# Altium integrated library Analog Devices Interface and Isolation Digital Isolators.IntLib: 644 symbols (part 20 of 37)
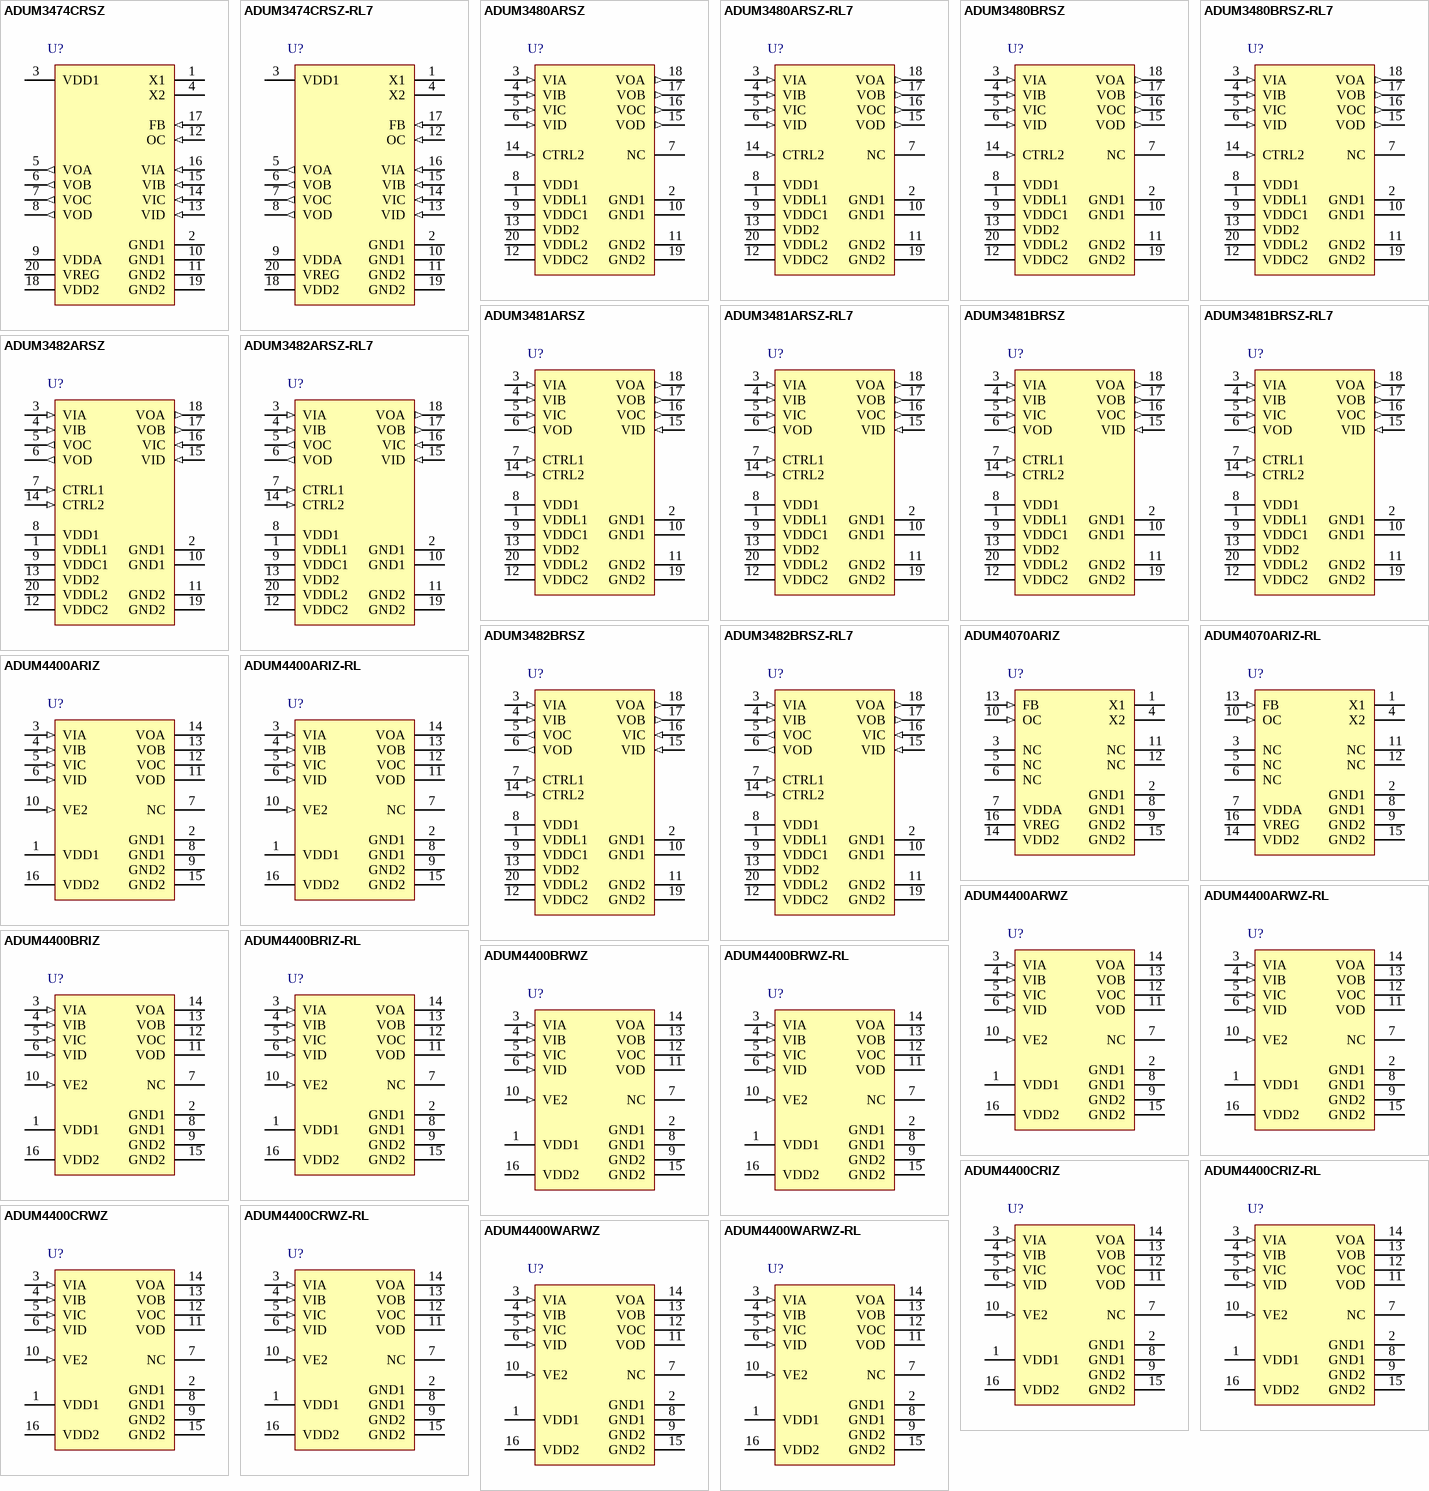
[diagram p39: symbols ADUM3474CRSZ to ADUM4400WARWZ-RL]

## ADUM3481ARSZ
designator U?
Quad Channel Small Isolator, 3.75 KV rms Insulation Rating, 1 Mbps Data Rate, 90 ns Delay, Industrial, 20-pin SOP (RS-20), Tube; Manufacturer: Analog Devices; PartNumber: ADUM3481ARSZ; Insulation Rating (kVrms): 3.75; Max Data Rate: 1Mbps; DatasheetVersion: Rev. 0; PackageVersion: Mar-03; PackageReference: RS-20; PackageDescription: 20-Pin Shrink Small Outline Package, Body 7.2 x 5.3 mm, Pitch 0.65 mm; Supplier 1: Digi-Key; Supplier Part Number 1: ADUM3481ARSZ-ND; Supplier 2: Farnell; Supplier Part Number 2: 2213542; Supplier 3: Mouser; Supplier Part Number 3: 584-ADUM3481ARSZ; Max Operating Temp (degreesC): 125; Mounting Technology: Surface Mount; Code_JEDEC: MO-150AE; ComponentLink1Description: Manufacturer URL; ComponentLink1URL: http://www.analog.com/en/index.html; ComponentLink2Description: Datasheet; ComponentLink2URL: http://www.analog.com/static/imported-files/data_sheets/ADuM3480_3481_3482.pdf; ComponentLink3Description: Package Specification; ComponentLink3URL: http://www.analog.com/static/imported-files/packages/318405805657546556503576154334802686596RS_20.pdf; ComponentLink4Description: URL Link1; ComponentLink4URL: Product URL:http://www.analog.com/en/interface-isolation/digital-isolators/adum3481/products/product.html
footprint ADI-RS-20_N (SOP, 20-Leads, Body 7.2x5.3mm, Pitch 0.65mm, IPC Medium Density)
footprint ADI-RS-20_L (SOP, 20-Leads, Body 7.2x5.3mm, Pitch 0.65mm, IPC High Density)
footprint ADI-RS-20_M (SOP, 20-Leads, Body 7.2x5.3mm, Pitch 0.65mm, IPC Low Density)
pins: 1 VDDL1 (power) "1.8 V to 5.5 V Supply Voltage for Isolator Side 1 Input/Output Circuits. Bypass VDDL1 to GND1 with a 0.01 uF to 0.1 uF ceramic capacitor. For 3.0 V to 5.5 V input/output operation, VDDL1 can be connected directly to VDD1.", 2 GND1 (power) "Ground 1. Ground reference for Isolator Side 1. Pin 2 and Pin 10 are internally connected, and connecting both to the PCB ground plane as close to the part as possible is recommended.", 3 VIA (in) "Logic Input A.", 4 VIB (in) "Logic Input B.", 5 VIC (in) "Logic Input C.", 6 VOD (out) "Logic Output D.", 7 CTRL1 (in) "Select Side 1 Output Default Level. Low = default output low. High = default output high.", 8 VDD1 (power) "3.0 V to 5.5 V Supply Voltage for Isolator Side 1.", 9 VDDC1 (power) "Output Pin of an Internal Regulator for Side 1. Bypass VDDC1 to GND1 with a 0.01 uF to 0.1 uF ceramic capacitor. Do not use this pin to power external circuits.", 10 GND1 (power) "Ground 1. Ground reference for Isolator Side 1. Pin 2 and Pin 10 are internally connected, and connecting both to the PCB ground plane as close to the part as possible is recommended.", 11 GND2 (power) "Ground 2. Ground reference for Isolator Side 2. Pin 11 and Pin 19 are internally connected, and connecting both to the PCB ground plane as close to the part as possible is recommended.", 12 VDDC2 (power) "Output Pin of an Internal Regulator for Side 2. Bypass VDDC2 to GND2 with a 0.01 uF to 0.1 uF ceramic capacitor. Do not use this pin to power external circuits.", 13 VDD2 (power) "3.0 V to 5.5 V Supply Voltage for Isolator Side 2.", 14 CTRL2 (in) "Select Side 2 Output Default Level. Low = default output low. High = default output high.", 15 VID (in) "Logic Input D.", 16 VOC (out) "Logic Output C.", 17 VOB (out) "Logic Output B.", 18 VOA (out) "Logic Output A.", 19 GND2 (power) "Ground 2. Ground reference for Isolator Side 2. Pin 11 and Pin 19 are internally connected, and connecting both to the PCB ground plane as close to the part as possible is recommended.", 20 VDDL2 (power) "1.8 V to 5.5 V Supply Voltage for Isolator Side 2 Input/Output Circuits. Bypass VDDL2 to GND2 with a 0.01 uF to 0.1 uF ceramic capacitor. For 3.0 V to 5.5 V input/output operation, VDDL2 can be connected directly to VDD2."

## ADUM3481ARSZ-RL7
designator U?
Quad Channel Small Isolator, 3.75 KV rms Insulation Rating, 1 Mbps Data Rate, 90 ns Delay, Industrial, 20-pin SOP (RS-20), Reel; Manufacturer: Analog Devices; PartNumber: ADUM3481ARSZ-RL7; Insulation Rating (kVrms): 3.75; Max Data Rate: 1Mbps; DatasheetVersion: Rev. 0; PackageVersion: Mar-03; PackageReference: RS-20; PackageDescription: 20-Pin Shrink Small Outline Package, Body 7.2 x 5.3 mm, Pitch 0.65 mm; Supplier 1: Digi-Key; Supplier Part Number 1: ADUM3481ARSZ-RL7-ND; Supplier 2: Mouser; Supplier Part Number 2: 584-ADUM3481ARSZ-R7; Max Operating Temp (degreesC): 125; Mounting Technology: Surface Mount; Code_JEDEC: MO-150AE; ComponentLink1Description: Manufacturer URL; ComponentLink1URL: http://www.analog.com/en/index.html; ComponentLink2Description: Datasheet; ComponentLink2URL: http://www.analog.com/static/imported-files/data_sheets/ADuM3480_3481_3482.pdf; ComponentLink3Description: Package Specification; ComponentLink3URL: http://www.analog.com/static/imported-files/packages/318405805657546556503576154334802686596RS_20.pdf; ComponentLink4Description: URL Link1; ComponentLink4URL: Product URL:http://www.analog.com/en/interface-isolation/digital-isolators/adum3481/products/product.html
footprint ADI-RS-20_N (SOP, 20-Leads, Body 7.2x5.3mm, Pitch 0.65mm, IPC Medium Density)
footprint ADI-RS-20_L (SOP, 20-Leads, Body 7.2x5.3mm, Pitch 0.65mm, IPC High Density)
footprint ADI-RS-20_M (SOP, 20-Leads, Body 7.2x5.3mm, Pitch 0.65mm, IPC Low Density)
pins: 1 VDDL1 (power) "1.8 V to 5.5 V Supply Voltage for Isolator Side 1 Input/Output Circuits. Bypass VDDL1 to GND1 with a 0.01 uF to 0.1 uF ceramic capacitor. For 3.0 V to 5.5 V input/output operation, VDDL1 can be connected directly to VDD1.", 2 GND1 (power) "Ground 1. Ground reference for Isolator Side 1. Pin 2 and Pin 10 are internally connected, and connecting both to the PCB ground plane as close to the part as possible is recommended.", 3 VIA (in) "Logic Input A.", 4 VIB (in) "Logic Input B.", 5 VIC (in) "Logic Input C.", 6 VOD (out) "Logic Output D.", 7 CTRL1 (in) "Select Side 1 Output Default Level. Low = default output low. High = default output high.", 8 VDD1 (power) "3.0 V to 5.5 V Supply Voltage for Isolator Side 1.", 9 VDDC1 (power) "Output Pin of an Internal Regulator for Side 1. Bypass VDDC1 to GND1 with a 0.01 uF to 0.1 uF ceramic capacitor. Do not use this pin to power external circuits.", 10 GND1 (power) "Ground 1. Ground reference for Isolator Side 1. Pin 2 and Pin 10 are internally connected, and connecting both to the PCB ground plane as close to the part as possible is recommended.", 11 GND2 (power) "Ground 2. Ground reference for Isolator Side 2. Pin 11 and Pin 19 are internally connected, and connecting both to the PCB ground plane as close to the part as possible is recommended.", 12 VDDC2 (power) "Output Pin of an Internal Regulator for Side 2. Bypass VDDC2 to GND2 with a 0.01 uF to 0.1 uF ceramic capacitor. Do not use this pin to power external circuits.", 13 VDD2 (power) "3.0 V to 5.5 V Supply Voltage for Isolator Side 2.", 14 CTRL2 (in) "Select Side 2 Output Default Level. Low = default output low. High = default output high.", 15 VID (in) "Logic Input D.", 16 VOC (out) "Logic Output C.", 17 VOB (out) "Logic Output B.", 18 VOA (out) "Logic Output A.", 19 GND2 (power) "Ground 2. Ground reference for Isolator Side 2. Pin 11 and Pin 19 are internally connected, and connecting both to the PCB ground plane as close to the part as possible is recommended.", 20 VDDL2 (power) "1.8 V to 5.5 V Supply Voltage for Isolator Side 2 Input/Output Circuits. Bypass VDDL2 to GND2 with a 0.01 uF to 0.1 uF ceramic capacitor. For 3.0 V to 5.5 V input/output operation, VDDL2 can be connected directly to VDD2."

## ADUM3481BRSZ
designator U?
Quad Channel Small Isolator, 3.75 KV rms Insulation Rating, 25 Mbps Data Rate, 33 ns Delay, Industrial, 20-pin SOP (RS-20), Tube; Manufacturer: Analog Devices; PartNumber: ADUM3481BRSZ; Insulation Rating (kVrms): 3.75; Max Data Rate: 25Mbps; DatasheetVersion: Rev. 0; PackageVersion: Mar-03; PackageReference: RS-20; PackageDescription: 20-Pin Shrink Small Outline Package, Body 7.2 x 5.3 mm, Pitch 0.65 mm; Supplier 1: Digi-Key; Supplier Part Number 1: ADUM3481BRSZ-ND; Supplier 2: Farnell; Supplier Part Number 2: 2213543; Supplier 3: Mouser; Supplier Part Number 3: 584-ADUM3481BRSZ; Max Operating Temp (degreesC): 125; Mounting Technology: Surface Mount; Code_JEDEC: MO-150AE; ComponentLink1Description: Manufacturer URL; ComponentLink1URL: http://www.analog.com/en/index.html; ComponentLink2Description: Datasheet; ComponentLink2URL: http://www.analog.com/static/imported-files/data_sheets/ADuM3480_3481_3482.pdf; ComponentLink3Description: Package Specification; ComponentLink3URL: http://www.analog.com/static/imported-files/packages/318405805657546556503576154334802686596RS_20.pdf; ComponentLink4Description: URL Link1; ComponentLink4URL: Product URL:http://www.analog.com/en/interface-isolation/digital-isolators/adum3481/products/product.html
footprint ADI-RS-20_N (SOP, 20-Leads, Body 7.2x5.3mm, Pitch 0.65mm, IPC Medium Density)
footprint ADI-RS-20_L (SOP, 20-Leads, Body 7.2x5.3mm, Pitch 0.65mm, IPC High Density)
footprint ADI-RS-20_M (SOP, 20-Leads, Body 7.2x5.3mm, Pitch 0.65mm, IPC Low Density)
pins: 1 VDDL1 (power) "1.8 V to 5.5 V Supply Voltage for Isolator Side 1 Input/Output Circuits. Bypass VDDL1 to GND1 with a 0.01 uF to 0.1 uF ceramic capacitor. For 3.0 V to 5.5 V input/output operation, VDDL1 can be connected directly to VDD1.", 2 GND1 (power) "Ground 1. Ground reference for Isolator Side 1. Pin 2 and Pin 10 are internally connected, and connecting both to the PCB ground plane as close to the part as possible is recommended.", 3 VIA (in) "Logic Input A.", 4 VIB (in) "Logic Input B.", 5 VIC (in) "Logic Input C.", 6 VOD (out) "Logic Output D.", 7 CTRL1 (in) "Select Side 1 Output Default Level. Low = default output low. High = default output high.", 8 VDD1 (power) "3.0 V to 5.5 V Supply Voltage for Isolator Side 1.", 9 VDDC1 (power) "Output Pin of an Internal Regulator for Side 1. Bypass VDDC1 to GND1 with a 0.01 uF to 0.1 uF ceramic capacitor. Do not use this pin to power external circuits.", 10 GND1 (power) "Ground 1. Ground reference for Isolator Side 1. Pin 2 and Pin 10 are internally connected, and connecting both to the PCB ground plane as close to the part as possible is recommended.", 11 GND2 (power) "Ground 2. Ground reference for Isolator Side 2. Pin 11 and Pin 19 are internally connected, and connecting both to the PCB ground plane as close to the part as possible is recommended.", 12 VDDC2 (power) "Output Pin of an Internal Regulator for Side 2. Bypass VDDC2 to GND2 with a 0.01 uF to 0.1 uF ceramic capacitor. Do not use this pin to power external circuits.", 13 VDD2 (power) "3.0 V to 5.5 V Supply Voltage for Isolator Side 2.", 14 CTRL2 (in) "Select Side 2 Output Default Level. Low = default output low. High = default output high.", 15 VID (in) "Logic Input D.", 16 VOC (out) "Logic Output C.", 17 VOB (out) "Logic Output B.", 18 VOA (out) "Logic Output A.", 19 GND2 (power) "Ground 2. Ground reference for Isolator Side 2. Pin 11 and Pin 19 are internally connected, and connecting both to the PCB ground plane as close to the part as possible is recommended.", 20 VDDL2 (power) "1.8 V to 5.5 V Supply Voltage for Isolator Side 2 Input/Output Circuits. Bypass VDDL2 to GND2 with a 0.01 uF to 0.1 uF ceramic capacitor. For 3.0 V to 5.5 V input/output operation, VDDL2 can be connected directly to VDD2."

## ADUM3481BRSZ-RL7
designator U?
Quad Channel Small Isolator, 3.75 KV rms Insulation Rating, 25 Mbps Data Rate, 33 ns Delay, Industrial, 20-pin SOP (RS-20), Reel; Manufacturer: Analog Devices; PartNumber: ADUM3481BRSZ-RL7; Insulation Rating (kVrms): 3.75; Max Data Rate: 25Mbps; DatasheetVersion: Rev. 0; PackageVersion: Mar-03; PackageReference: RS-20; PackageDescription: 20-Pin Shrink Small Outline Package, Body 7.2 x 5.3 mm, Pitch 0.65 mm; Supplier 1: Digi-Key; Supplier Part Number 1: ADUM3481BRSZ-RL7-ND; Supplier 2: Mouser; Supplier Part Number 2: 584-ADUM3481BRSZ-R7; Max Operating Temp (degreesC): 125; Mounting Technology: Surface Mount; Code_JEDEC: MO-150AE; ComponentLink1Description: Manufacturer URL; ComponentLink1URL: http://www.analog.com/en/index.html; ComponentLink2Description: Datasheet; ComponentLink2URL: http://www.analog.com/static/imported-files/data_sheets/ADuM3480_3481_3482.pdf; ComponentLink3Description: Package Specification; ComponentLink3URL: http://www.analog.com/static/imported-files/packages/318405805657546556503576154334802686596RS_20.pdf; ComponentLink4Description: URL Link1; ComponentLink4URL: Product URL:http://www.analog.com/en/interface-isolation/digital-isolators/adum3481/products/product.html
footprint ADI-RS-20_N (SOP, 20-Leads, Body 7.2x5.3mm, Pitch 0.65mm, IPC Medium Density)
footprint ADI-RS-20_L (SOP, 20-Leads, Body 7.2x5.3mm, Pitch 0.65mm, IPC High Density)
footprint ADI-RS-20_M (SOP, 20-Leads, Body 7.2x5.3mm, Pitch 0.65mm, IPC Low Density)
pins: 1 VDDL1 (power) "1.8 V to 5.5 V Supply Voltage for Isolator Side 1 Input/Output Circuits. Bypass VDDL1 to GND1 with a 0.01 uF to 0.1 uF ceramic capacitor. For 3.0 V to 5.5 V input/output operation, VDDL1 can be connected directly to VDD1.", 2 GND1 (power) "Ground 1. Ground reference for Isolator Side 1. Pin 2 and Pin 10 are internally connected, and connecting both to the PCB ground plane as close to the part as possible is recommended.", 3 VIA (in) "Logic Input A.", 4 VIB (in) "Logic Input B.", 5 VIC (in) "Logic Input C.", 6 VOD (out) "Logic Output D.", 7 CTRL1 (in) "Select Side 1 Output Default Level. Low = default output low. High = default output high.", 8 VDD1 (power) "3.0 V to 5.5 V Supply Voltage for Isolator Side 1.", 9 VDDC1 (power) "Output Pin of an Internal Regulator for Side 1. Bypass VDDC1 to GND1 with a 0.01 uF to 0.1 uF ceramic capacitor. Do not use this pin to power external circuits.", 10 GND1 (power) "Ground 1. Ground reference for Isolator Side 1. Pin 2 and Pin 10 are internally connected, and connecting both to the PCB ground plane as close to the part as possible is recommended.", 11 GND2 (power) "Ground 2. Ground reference for Isolator Side 2. Pin 11 and Pin 19 are internally connected, and connecting both to the PCB ground plane as close to the part as possible is recommended.", 12 VDDC2 (power) "Output Pin of an Internal Regulator for Side 2. Bypass VDDC2 to GND2 with a 0.01 uF to 0.1 uF ceramic capacitor. Do not use this pin to power external circuits.", 13 VDD2 (power) "3.0 V to 5.5 V Supply Voltage for Isolator Side 2.", 14 CTRL2 (in) "Select Side 2 Output Default Level. Low = default output low. High = default output high.", 15 VID (in) "Logic Input D.", 16 VOC (out) "Logic Output C.", 17 VOB (out) "Logic Output B.", 18 VOA (out) "Logic Output A.", 19 GND2 (power) "Ground 2. Ground reference for Isolator Side 2. Pin 11 and Pin 19 are internally connected, and connecting both to the PCB ground plane as close to the part as possible is recommended.", 20 VDDL2 (power) "1.8 V to 5.5 V Supply Voltage for Isolator Side 2 Input/Output Circuits. Bypass VDDL2 to GND2 with a 0.01 uF to 0.1 uF ceramic capacitor. For 3.0 V to 5.5 V input/output operation, VDDL2 can be connected directly to VDD2."

## ADUM3482ARSZ
designator U?
Quad Channel Small Isolator, 3.75 KV rms Insulation Rating, 1 Mbps Data Rate, 90 ns Delay, Industrial, 20-pin SOP (RS-20), Tube; Manufacturer: Analog Devices; PartNumber: ADUM3482ARSZ; Insulation Rating (kVrms): 3.75; Max Data Rate: 1Mbps; DatasheetVersion: Rev. 0; PackageVersion: Mar-03; PackageReference: RS-20; PackageDescription: 20-Pin Shrink Small Outline Package, Body 7.2 x 5.3 mm, Pitch 0.65 mm; Supplier 1: Digi-Key; Supplier Part Number 1: ADUM3482ARSZ-ND; Supplier 2: Farnell; Supplier Part Number 2: 2213544; Supplier 3: Mouser; Supplier Part Number 3: 584-ADUM3482ARSZ; Max Operating Temp (degreesC): 125; Mounting Technology: Surface Mount; Code_JEDEC: MO-150AE; ComponentLink1Description: Manufacturer URL; ComponentLink1URL: http://www.analog.com/en/index.html; ComponentLink2Description: Datasheet; ComponentLink2URL: http://www.analog.com/static/imported-files/data_sheets/ADuM3480_3481_3482.pdf; ComponentLink3Description: Package Specification; ComponentLink3URL: http://www.analog.com/static/imported-files/packages/318405805657546556503576154334802686596RS_20.pdf; ComponentLink4Description: URL Link1; ComponentLink4URL: Product URL:http://www.analog.com/en/interface-isolation/digital-isolators/adum3482/products/product.html
footprint ADI-RS-20_N (SOP, 20-Leads, Body 7.2x5.3mm, Pitch 0.65mm, IPC Medium Density)
footprint ADI-RS-20_L (SOP, 20-Leads, Body 7.2x5.3mm, Pitch 0.65mm, IPC High Density)
footprint ADI-RS-20_M (SOP, 20-Leads, Body 7.2x5.3mm, Pitch 0.65mm, IPC Low Density)
pins: 1 VDDL1 (power) "1.8 V to 5.5 V Supply Voltage for Isolator Side 1 Input/Output Circuits. Bypass VDDL1 to GND1 with a 0.01 uF to 0.1 uF ceramic capacitor. For 3.0 V to 5.5 V input/output operation, VDDL1 can be connected directly to VDD1.", 2 GND1 (power) "Ground 1. Ground reference for Isolator Side 1. Pin 2 and Pin 10 are internally connected, and connecting both to the PCB ground plane as close to the part as possible is recommended.", 3 VIA (in) "Logic Input A.", 4 VIB (in) "Logic Input B.", 5 VOC (out) "Logic Output C.", 6 VOD (out) "Logic Output D.", 7 CTRL1 (in) "Select Side 1 Output Default Level. Low = default output low. High = default output high.", 8 VDD1 (power) "3.0 V to 5.5 V Supply Voltage for Isolator Side 1.", 9 VDDC1 (power) "Output Pin of an Internal Regulator for Side 1. Bypass VDDC1 to GND1 with a 0.01 uF to 0.1 uF ceramic capacitor. Do not use this pin to power external circuits.", 10 GND1 (power) "Ground 1. Ground reference for Isolator Side 1. Pin 2 and Pin 10 are internally connected, and connecting both to the PCB ground plane as close to the part as possible is recommended.", 11 GND2 (power) "Ground 2. Ground reference for Isolator Side 2. Pin 11 and Pin 19 are internally connected, and connecting both to the PCB ground plane as close to the part as possible is recommended.", 12 VDDC2 (power) "Output Pin of an Internal Regulator for Side 2. Bypass VDDC2 to GND2 with a 0.01 uF to 0.1 uF ceramic capacitor. Do not use this pin to power external circuits.", 13 VDD2 (power) "3.0 V to 5.5 V Supply Voltage for Isolator Side 2.", 14 CTRL2 (in) "Select Side 2 Output Default Level. Low = default output low. High = default output high.", 15 VID (in) "Logic Input D.", 16 VIC (in) "Logic Input C.", 17 VOB (out) "Logic Output B.", 18 VOA (out) "Logic Output A.", 19 GND2 (power) "Ground 2. Ground reference for Isolator Side 2. Pin 11 and Pin 19 are internally connected, and connecting both to the PCB ground plane as close to the part as possible is recommended.", 20 VDDL2 (power) "1.8 V to 5.5 V Supply Voltage for Isolator Side 2 Input/Output Circuits. Bypass VDDL2 to GND2 with a 0.01 uF to 0.1 uF ceramic capacitor. For 3.0 V to 5.5 V input/output operation, VDDL2 can be connected directly to VDD2."

## ADUM3482ARSZ-RL7
designator U?
Quad Channel Small Isolator, 3.75 KV rms Insulation Rating, 1 Mbps Data Rate, 90 ns Delay, Industrial, 20-pin SOP (RS-20), Reel; Manufacturer: Analog Devices; PartNumber: ADUM3482ARSZ-RL7; Insulation Rating (kVrms): 3.75; Max Data Rate: 1Mbps; DatasheetVersion: Rev. 0; PackageVersion: Mar-03; PackageReference: RS-20; PackageDescription: 20-Pin Shrink Small Outline Package, Body 7.2 x 5.3 mm, Pitch 0.65 mm; Supplier 1: Digi-Key; Supplier Part Number 1: ADUM3482ARSZ-RL7-ND; Supplier 2: Mouser; Supplier Part Number 2: 584-ADUM3482ARSZ-R7; Max Operating Temp (degreesC): 125; Mounting Technology: Surface Mount; Code_JEDEC: MO-150AE; ComponentLink1Description: Manufacturer URL; ComponentLink1URL: http://www.analog.com/en/index.html; ComponentLink2Description: Datasheet; ComponentLink2URL: http://www.analog.com/static/imported-files/data_sheets/ADuM3480_3481_3482.pdf; ComponentLink3Description: Package Specification; ComponentLink3URL: http://www.analog.com/static/imported-files/packages/318405805657546556503576154334802686596RS_20.pdf; ComponentLink4Description: URL Link1; ComponentLink4URL: Product URL:http://www.analog.com/en/interface-isolation/digital-isolators/adum3482/products/product.html
footprint ADI-RS-20_N (SOP, 20-Leads, Body 7.2x5.3mm, Pitch 0.65mm, IPC Medium Density)
footprint ADI-RS-20_L (SOP, 20-Leads, Body 7.2x5.3mm, Pitch 0.65mm, IPC High Density)
footprint ADI-RS-20_M (SOP, 20-Leads, Body 7.2x5.3mm, Pitch 0.65mm, IPC Low Density)
pins: 1 VDDL1 (power) "1.8 V to 5.5 V Supply Voltage for Isolator Side 1 Input/Output Circuits. Bypass VDDL1 to GND1 with a 0.01 uF to 0.1 uF ceramic capacitor. For 3.0 V to 5.5 V input/output operation, VDDL1 can be connected directly to VDD1.", 2 GND1 (power) "Ground 1. Ground reference for Isolator Side 1. Pin 2 and Pin 10 are internally connected, and connecting both to the PCB ground plane as close to the part as possible is recommended.", 3 VIA (in) "Logic Input A.", 4 VIB (in) "Logic Input B.", 5 VOC (out) "Logic Output C.", 6 VOD (out) "Logic Output D.", 7 CTRL1 (in) "Select Side 1 Output Default Level. Low = default output low. High = default output high.", 8 VDD1 (power) "3.0 V to 5.5 V Supply Voltage for Isolator Side 1.", 9 VDDC1 (power) "Output Pin of an Internal Regulator for Side 1. Bypass VDDC1 to GND1 with a 0.01 uF to 0.1 uF ceramic capacitor. Do not use this pin to power external circuits.", 10 GND1 (power) "Ground 1. Ground reference for Isolator Side 1. Pin 2 and Pin 10 are internally connected, and connecting both to the PCB ground plane as close to the part as possible is recommended.", 11 GND2 (power) "Ground 2. Ground reference for Isolator Side 2. Pin 11 and Pin 19 are internally connected, and connecting both to the PCB ground plane as close to the part as possible is recommended.", 12 VDDC2 (power) "Output Pin of an Internal Regulator for Side 2. Bypass VDDC2 to GND2 with a 0.01 uF to 0.1 uF ceramic capacitor. Do not use this pin to power external circuits.", 13 VDD2 (power) "3.0 V to 5.5 V Supply Voltage for Isolator Side 2.", 14 CTRL2 (in) "Select Side 2 Output Default Level. Low = default output low. High = default output high.", 15 VID (in) "Logic Input D.", 16 VIC (in) "Logic Input C.", 17 VOB (out) "Logic Output B.", 18 VOA (out) "Logic Output A.", 19 GND2 (power) "Ground 2. Ground reference for Isolator Side 2. Pin 11 and Pin 19 are internally connected, and connecting both to the PCB ground plane as close to the part as possible is recommended.", 20 VDDL2 (power) "1.8 V to 5.5 V Supply Voltage for Isolator Side 2 Input/Output Circuits. Bypass VDDL2 to GND2 with a 0.01 uF to 0.1 uF ceramic capacitor. For 3.0 V to 5.5 V input/output operation, VDDL2 can be connected directly to VDD2."

## ADUM3482BRSZ
designator U?
Quad Channel Small Isolator, 3.75 KV rms Insulation Rating, 25 Mbps Data Rate, 33 ns Delay, Industrial, 20-pin SOP (RS-20), Tube; Manufacturer: Analog Devices; PartNumber: ADUM3482BRSZ; Insulation Rating (kVrms): 3.75; Max Data Rate: 25Mbps; DatasheetVersion: Rev. 0; PackageVersion: Mar-03; PackageReference: RS-20; PackageDescription: 20-Pin Shrink Small Outline Package, Body 7.2 x 5.3 mm, Pitch 0.65 mm; Supplier 1: Digi-Key; Supplier Part Number 1: ADUM3482BRSZ-ND; Supplier 2: Farnell; Supplier Part Number 2: 2213545; Supplier 3: Mouser; Supplier Part Number 3: 584-ADUM3482BRSZ; Max Operating Temp (degreesC): 125; Mounting Technology: Surface Mount; Code_JEDEC: MO-150AE; ComponentLink1Description: Manufacturer URL; ComponentLink1URL: http://www.analog.com/en/index.html; ComponentLink2Description: Datasheet; ComponentLink2URL: http://www.analog.com/static/imported-files/data_sheets/ADuM3480_3481_3482.pdf; ComponentLink3Description: Package Specification; ComponentLink3URL: http://www.analog.com/static/imported-files/packages/318405805657546556503576154334802686596RS_20.pdf; ComponentLink4Description: URL Link1; ComponentLink4URL: Product URL:http://www.analog.com/en/interface-isolation/digital-isolators/adum3482/products/product.html
footprint ADI-RS-20_N (SOP, 20-Leads, Body 7.2x5.3mm, Pitch 0.65mm, IPC Medium Density)
footprint ADI-RS-20_L (SOP, 20-Leads, Body 7.2x5.3mm, Pitch 0.65mm, IPC High Density)
footprint ADI-RS-20_M (SOP, 20-Leads, Body 7.2x5.3mm, Pitch 0.65mm, IPC Low Density)
pins: 1 VDDL1 (power) "1.8 V to 5.5 V Supply Voltage for Isolator Side 1 Input/Output Circuits. Bypass VDDL1 to GND1 with a 0.01 uF to 0.1 uF ceramic capacitor. For 3.0 V to 5.5 V input/output operation, VDDL1 can be connected directly to VDD1.", 2 GND1 (power) "Ground 1. Ground reference for Isolator Side 1. Pin 2 and Pin 10 are internally connected, and connecting both to the PCB ground plane as close to the part as possible is recommended.", 3 VIA (in) "Logic Input A.", 4 VIB (in) "Logic Input B.", 5 VOC (out) "Logic Output C.", 6 VOD (out) "Logic Output D.", 7 CTRL1 (in) "Select Side 1 Output Default Level. Low = default output low. High = default output high.", 8 VDD1 (power) "3.0 V to 5.5 V Supply Voltage for Isolator Side 1.", 9 VDDC1 (power) "Output Pin of an Internal Regulator for Side 1. Bypass VDDC1 to GND1 with a 0.01 uF to 0.1 uF ceramic capacitor. Do not use this pin to power external circuits.", 10 GND1 (power) "Ground 1. Ground reference for Isolator Side 1. Pin 2 and Pin 10 are internally connected, and connecting both to the PCB ground plane as close to the part as possible is recommended.", 11 GND2 (power) "Ground 2. Ground reference for Isolator Side 2. Pin 11 and Pin 19 are internally connected, and connecting both to the PCB ground plane as close to the part as possible is recommended.", 12 VDDC2 (power) "Output Pin of an Internal Regulator for Side 2. Bypass VDDC2 to GND2 with a 0.01 uF to 0.1 uF ceramic capacitor. Do not use this pin to power external circuits.", 13 VDD2 (power) "3.0 V to 5.5 V Supply Voltage for Isolator Side 2.", 14 CTRL2 (in) "Select Side 2 Output Default Level. Low = default output low. High = default output high.", 15 VID (in) "Logic Input D.", 16 VIC (in) "Logic Input C.", 17 VOB (out) "Logic Output B.", 18 VOA (out) "Logic Output A.", 19 GND2 (power) "Ground 2. Ground reference for Isolator Side 2. Pin 11 and Pin 19 are internally connected, and connecting both to the PCB ground plane as close to the part as possible is recommended.", 20 VDDL2 (power) "1.8 V to 5.5 V Supply Voltage for Isolator Side 2 Input/Output Circuits. Bypass VDDL2 to GND2 with a 0.01 uF to 0.1 uF ceramic capacitor. For 3.0 V to 5.5 V input/output operation, VDDL2 can be connected directly to VDD2."

## ADUM3482BRSZ-RL7
designator U?
Quad Channel Small Isolator, 3.75 KV rms Insulation Rating, 25 Mbps Data Rate, 33 ns Delay, Industrial, 20-pin SOP (RS-20), Reel; Manufacturer: Analog Devices; PartNumber: ADUM3482BRSZ-RL7; Insulation Rating (kVrms): 3.75; Max Data Rate: 25Mbps; DatasheetVersion: Rev. 0; PackageVersion: Mar-03; PackageReference: RS-20; PackageDescription: 20-Pin Shrink Small Outline Package, Body 7.2 x 5.3 mm, Pitch 0.65 mm; Supplier 1: Digi-Key; Supplier Part Number 1: ADUM3482BRSZ-RL7-ND; Supplier 2: Mouser; Supplier Part Number 2: 584-ADUM3482BRSZ-R7; Max Operating Temp (degreesC): 125; Mounting Technology: Surface Mount; Code_JEDEC: MO-150AE; ComponentLink1Description: Manufacturer URL; ComponentLink1URL: http://www.analog.com/en/index.html; ComponentLink2Description: Datasheet; ComponentLink2URL: http://www.analog.com/static/imported-files/data_sheets/ADuM3480_3481_3482.pdf; ComponentLink3Description: Package Specification; ComponentLink3URL: http://www.analog.com/static/imported-files/packages/318405805657546556503576154334802686596RS_20.pdf; ComponentLink4Description: URL Link1; ComponentLink4URL: Product URL:http://www.analog.com/en/interface-isolation/digital-isolators/adum3482/products/product.html
footprint ADI-RS-20_N (SOP, 20-Leads, Body 7.2x5.3mm, Pitch 0.65mm, IPC Medium Density)
footprint ADI-RS-20_L (SOP, 20-Leads, Body 7.2x5.3mm, Pitch 0.65mm, IPC High Density)
footprint ADI-RS-20_M (SOP, 20-Leads, Body 7.2x5.3mm, Pitch 0.65mm, IPC Low Density)
pins: 1 VDDL1 (power) "1.8 V to 5.5 V Supply Voltage for Isolator Side 1 Input/Output Circuits. Bypass VDDL1 to GND1 with a 0.01 uF to 0.1 uF ceramic capacitor. For 3.0 V to 5.5 V input/output operation, VDDL1 can be connected directly to VDD1.", 2 GND1 (power) "Ground 1. Ground reference for Isolator Side 1. Pin 2 and Pin 10 are internally connected, and connecting both to the PCB ground plane as close to the part as possible is recommended.", 3 VIA (in) "Logic Input A.", 4 VIB (in) "Logic Input B.", 5 VOC (out) "Logic Output C.", 6 VOD (out) "Logic Output D.", 7 CTRL1 (in) "Select Side 1 Output Default Level. Low = default output low. High = default output high.", 8 VDD1 (power) "3.0 V to 5.5 V Supply Voltage for Isolator Side 1.", 9 VDDC1 (power) "Output Pin of an Internal Regulator for Side 1. Bypass VDDC1 to GND1 with a 0.01 uF to 0.1 uF ceramic capacitor. Do not use this pin to power external circuits.", 10 GND1 (power) "Ground 1. Ground reference for Isolator Side 1. Pin 2 and Pin 10 are internally connected, and connecting both to the PCB ground plane as close to the part as possible is recommended.", 11 GND2 (power) "Ground 2. Ground reference for Isolator Side 2. Pin 11 and Pin 19 are internally connected, and connecting both to the PCB ground plane as close to the part as possible is recommended.", 12 VDDC2 (power) "Output Pin of an Internal Regulator for Side 2. Bypass VDDC2 to GND2 with a 0.01 uF to 0.1 uF ceramic capacitor. Do not use this pin to power external circuits.", 13 VDD2 (power) "3.0 V to 5.5 V Supply Voltage for Isolator Side 2.", 14 CTRL2 (in) "Select Side 2 Output Default Level. Low = default output low. High = default output high.", 15 VID (in) "Logic Input D.", 16 VIC (in) "Logic Input C.", 17 VOB (out) "Logic Output B.", 18 VOA (out) "Logic Output A.", 19 GND2 (power) "Ground 2. Ground reference for Isolator Side 2. Pin 11 and Pin 19 are internally connected, and connecting both to the PCB ground plane as close to the part as possible is recommended.", 20 VDDL2 (power) "1.8 V to 5.5 V Supply Voltage for Isolator Side 2 Input/Output Circuits. Bypass VDDL2 to GND2 with a 0.01 uF to 0.1 uF ceramic capacitor. For 3.0 V to 5.5 V input/output operation, VDDL2 can be connected directly to VDD2."

## ADUM4070ARIZ
designator U?
Isolated Switch Regulator with Integrated Feedback, 5 KV rms Insulation Rating, Industrial, 16-pin SOIC (RI-16-2), Tube; Manufacturer: Analog Devices; PartNumber: ADUM4070ARIZ; Insulation Rating (kVrms): 2.5; DatasheetVersion: Rev. 0; PackageVersion: 11-15-2011-A, 11/2012; PackageReference: RI-16-2; PackageDescription: 16-Pin Standard Small Outline Package, with Increased Creepage, Body 12.75 x 7.5 mm, Pitch 1.27 mm; Supplier 1: Digi-Key; Supplier Part Number 1: ADUM4070ARIZ-ND; Supplier 2: Farnell; Supplier Part Number 2: 2254949; Supplier 3: Mouser; Supplier Part Number 3: 584-ADUM4070ARIZ; Max Operating Temp (degreesC): 105; Mounting Technology: Surface Mount; Code_JEDEC: MS-013-AC; ComponentLink1Description: Manufacturer URL; ComponentLink1URL: http://www.analog.com/en/index.html; ComponentLink2Description: Datasheet; ComponentLink2URL: http://www.analog.com/static/imported-files/data_sheets/ADuM4070.PDF; ComponentLink3Description: Package Specification; ComponentLink3URL: http://www.analog.com/static/imported-files/data_sheets/ADuM2280_2281_2285_2286.pdf
footprint ADI-RI-16-2_N (SOIC, 16-Leads, Body 12.75x7.5mm, Pitch 1.27mm, IPC Medium Density)
footprint ADI-RI-16-2_L (SOIC, 16-Leads, Body 12.75x7.5mm, Pitch 1.27mm, IPC High Density)
footprint ADI-RI-16-2_M (SOIC, 16-Leads, Body 12.75x7.5mm, Pitch 1.27mm, IPC Low Density)
pins: 1 X1 (power) "Transformer Driver Output 1.", 2 GND1 (power) "Ground Reference for the Primary Side of the Isolator. Pin 2 and Pin 8 are internally connected to each other; it is recommended that both pins be connected to a common ground.", 3 NC "No Connect. Do not connect to this pin.", 4 X2 (power) "Transformer Driver Output 2.", 5 NC "No Connect. Do not connect to this pin.", 6 NC "No Connect. Do not connect to this pin.", 7 VDDA (power) "Supply Voltage for the Primary Side, 3.0 V to 5.5 V. Connect a 0.1 uF bypass capacitor from VDDA to GND1.", 8 GND1 (power) "Ground Reference for the Primary Side of the Isolator. Pin 2 and Pin 8 are internally connected to each other; it is recommended that both pins be connected to a common ground", 9 GND2 (power) "Ground Reference for the Secondary Side of the Isolator. Pin 9 and Pin 15 are internally connected to each other; it is recommended that both pins be connected to a common ground.", 10 OC (in) "Oscillator Control Pin. When the OC pin is connected high to the VDD2 pin, the secondary controller runs in open-loop (unregulated) mode. To regulate the output voltage, connect a resistor between the OC pin and GND2; the (See Datasheet)", 11 NC "No Connect. Do not connect to this pin.", 12 NC "No Connect. Do not connect to this pin.", 13 FB (in) "Feedback Input from the Secondary Output Voltage, VISO. Use a resistor divider from the VISO output to the FB pin to set the VFB voltage equal to the 1.25 V internal reference level using the formula VISO = VFB x (R1 + (See Datasheet)", 14 VDD2 (power) "Internal Supply Voltage for the Secondary Side. When a sufficient external voltage is supplied to VREG, the internal regulator regulates the VDD2 pin to 5.0 V. Otherwise, VDD2 should be in the 3.0 V to 5.5 V range. Connect a (See Datasheet)", 15 GND2 (power) "Ground Reference for the Secondary Side of the Isolator. Pin 9 and Pin 15 are internally connected to each other; it is recommended that both pins be connected to a common ground.", 16 VREG (power) "Input of the Internal Regulator to Power the Secondary Side Controller. VREG should be in the 5.5 V to 15 V range to regulate the VDD2 output to 5.0 V."

## ADUM4070ARIZ-RL
designator U?
Isolated Switch Regulator with Integrated Feedback, 5 KV rms Insulation Rating, Industrial, 16-pin SOIC (RI-16-2), Reel; Manufacturer: Analog Devices; PartNumber: ADUM4070ARIZ-RL; Insulation Rating (kVrms): 2.5; DatasheetVersion: Rev. 0; PackageVersion: 11-15-2011-A, 11/2012; PackageReference: RI-16-2; PackageDescription: 16-Pin Standard Small Outline Package, with Increased Creepage, Body 12.75 x 7.5 mm, Pitch 1.27 mm; Supplier 1: Digi-Key; Supplier Part Number 1: ADUM4070ARIZ-RL-ND; Supplier 2: Mouser; Supplier Part Number 2: 584-ADUM4070ARIZ-R; Max Operating Temp (degreesC): 105; Mounting Technology: Surface Mount; Code_JEDEC: MS-013-AC; ComponentLink1Description: Manufacturer URL; ComponentLink1URL: http://www.analog.com/en/index.html; ComponentLink2Description: Datasheet; ComponentLink2URL: http://www.analog.com/static/imported-files/data_sheets/ADuM4070.PDF; ComponentLink3Description: Package Specification; ComponentLink3URL: http://www.analog.com/static/imported-files/data_sheets/ADuM2280_2281_2285_2286.pdf
footprint ADI-RI-16-2_N (SOIC, 16-Leads, Body 12.75x7.5mm, Pitch 1.27mm, IPC Medium Density)
footprint ADI-RI-16-2_L (SOIC, 16-Leads, Body 12.75x7.5mm, Pitch 1.27mm, IPC High Density)
footprint ADI-RI-16-2_M (SOIC, 16-Leads, Body 12.75x7.5mm, Pitch 1.27mm, IPC Low Density)
pins: 1 X1 (power) "Transformer Driver Output 1.", 2 GND1 (power) "Ground Reference for the Primary Side of the Isolator. Pin 2 and Pin 8 are internally connected to each other; it is recommended that both pins be connected to a common ground.", 3 NC "No Connect. Do not connect to this pin.", 4 X2 (power) "Transformer Driver Output 2.", 5 NC "No Connect. Do not connect to this pin.", 6 NC "No Connect. Do not connect to this pin.", 7 VDDA (power) "Supply Voltage for the Primary Side, 3.0 V to 5.5 V. Connect a 0.1 uF bypass capacitor from VDDA to GND1.", 8 GND1 (power) "Ground Reference for the Primary Side of the Isolator. Pin 2 and Pin 8 are internally connected to each other; it is recommended that both pins be connected to a common ground", 9 GND2 (power) "Ground Reference for the Secondary Side of the Isolator. Pin 9 and Pin 15 are internally connected to each other; it is recommended that both pins be connected to a common ground.", 10 OC (in) "Oscillator Control Pin. When the OC pin is connected high to the VDD2 pin, the secondary controller runs in open-loop (unregulated) mode. To regulate the output voltage, connect a resistor between the OC pin and GND2; the (See Datasheet)", 11 NC "No Connect. Do not connect to this pin.", 12 NC "No Connect. Do not connect to this pin.", 13 FB (in) "Feedback Input from the Secondary Output Voltage, VISO. Use a resistor divider from the VISO output to the FB pin to set the VFB voltage equal to the 1.25 V internal reference level using the formula VISO = VFB x (R1 + (See Datasheet)", 14 VDD2 (power) "Internal Supply Voltage for the Secondary Side. When a sufficient external voltage is supplied to VREG, the internal regulator regulates the VDD2 pin to 5.0 V. Otherwise, VDD2 should be in the 3.0 V to 5.5 V range. Connect a (See Datasheet)", 15 GND2 (power) "Ground Reference for the Secondary Side of the Isolator. Pin 9 and Pin 15 are internally connected to each other; it is recommended that both pins be connected to a common ground.", 16 VREG (power) "Input of the Internal Regulator to Power the Secondary Side Controller. VREG should be in the 5.5 V to 15 V range to regulate the VDD2 output to 5.0 V."

## ADUM4400ARIZ
designator U?
Quad Channel Digital Isolator, 5 KV rms Insulation Rating, 1 Mbps Data Rate, 100 ns Delay, Industrial, 16-pin SOIC (RI-16-1), Tube; Manufacturer: Analog Devices; PartNumber: ADUM4400ARIZ; Insulation Rating (kVrms): 5; Max Data Rate: 1Mbps; DatasheetVersion: Rev. C; PackageVersion: 10-12-2010-A, 02/2012; PackageReference: RI-16-1; PackageDescription: 16-Pin Standard Small Outline Package, with Increased Creepage, Body 12.8 x 7.5 mm, Pitch 1.27 mm; Supplier 1: Digi-Key; Supplier Part Number 1: ADUM4400ARIZ-ND; Supplier 2: Mouser; Supplier Part Number 2: 584-ADUM4400ARIZ; Max Operating Temp (degreesC): 105; Mounting Technology: Surface Mount; Code_JEDEC: MS-013-AC; ComponentLink1Description: Manufacturer URL; ComponentLink1URL: http://www.analog.com/en/index.html; ComponentLink2Description: Datasheet; ComponentLink2URL: http://www.analog.com/static/imported-files/data_sheets/ADuM4400_4401_4402.pdf; ComponentLink3Description: Package Specification; ComponentLink3URL: http://www.analog.com/static/imported-files/data_sheets/ADuM2400_2401_2402.pdf; ComponentLink4Description: URL Link1; ComponentLink4URL: Product URL:http://www.analog.com/en/interface-isolation/digital-isolators/adum4400/products/product.html
footprint ADI-RI-16-1_N (SOIC, 16-Leads, Body 12.8x7.5mm, Pitch 1.27mm, IPC Medium Density)
footprint ADI-RI-16-1_L (SOIC, 16-Leads, Body 12.8x7.5mm, Pitch 1.27mm, IPC High Density)
footprint ADI-RI-16-1_M (SOIC, 16-Leads, Body 12.8x7.5mm, Pitch 1.27mm, IPC Low Density)
pins: 1 VDD1 (power) "Supply Voltage for Isolator Side 1.", 2 GND1 (power) "Ground 1. Ground reference for Isolator Side 1.", 3 VIA (in) "Logic Input A.", 4 VIB (in) "Logic Input B.", 5 VIC (in) "Logic Input C.", 6 VID (in) "Logic Input D.", 7 NC "No Connect.", 8 GND1 (power) "Ground 1. Ground reference for Isolator Side 1.", 9 GND2 (power) "Ground 2. Ground reference for Isolator Side 2.", 10 VE2 (in) "Output Enable 2. Active high logic input. VOA, VOB, VOC, and VOD outputs are enabled when VE2 is high or disconnected. VOA, VOB, VOC, and VOD outputs are disabled when VE2 is low. In noisy environments, connecting VE2 to an (See Datasheet)", 11 VOD (hiz) "Logic Output D.", 12 VOC (hiz) "Logic Output C.", 13 VOB (hiz) "Logic Output B.", 14 VOA (hiz) "Logic Output A.", 15 GND2 (power) "Ground 2. Ground reference for Isolator Side 2.", 16 VDD2 (power) "Supply Voltage for Isolator Side 2."

## ADUM4400ARIZ-RL
designator U?
Quad Channel Digital Isolator, 5 KV rms Insulation Rating, 1 Mbps Data Rate, 100 ns Delay, Industrial, 16-pin SOIC (RI-16-1), Reel; Manufacturer: Analog Devices; PartNumber: ADUM4400ARIZ-RL; Insulation Rating (kVrms): 5; Max Data Rate: 1Mbps; DatasheetVersion: Rev. C; PackageVersion: 10-12-2010-A, 02/2012; PackageReference: RI-16-1; PackageDescription: 16-Pin Standard Small Outline Package, with Increased Creepage, Body 12.8 x 7.5 mm, Pitch 1.27 mm; Supplier 1: Digi-Key; Supplier Part Number 1: ADUM4400ARIZ-RL-ND; Supplier 2: Mouser; Supplier Part Number 2: 584-ADUM4400ARIZ-R; Max Operating Temp (degreesC): 105; Mounting Technology: Surface Mount; Code_JEDEC: MS-013-AC; ComponentLink1Description: Manufacturer URL; ComponentLink1URL: http://www.analog.com/en/index.html; ComponentLink2Description: Datasheet; ComponentLink2URL: http://www.analog.com/static/imported-files/data_sheets/ADuM4400_4401_4402.pdf; ComponentLink3Description: Package Specification; ComponentLink3URL: http://www.analog.com/static/imported-files/data_sheets/ADuM2400_2401_2402.pdf; ComponentLink4Description: URL Link1; ComponentLink4URL: Product URL:http://www.analog.com/en/interface-isolation/digital-isolators/adum4400/products/product.html
footprint ADI-RI-16-1_N (SOIC, 16-Leads, Body 12.8x7.5mm, Pitch 1.27mm, IPC Medium Density)
footprint ADI-RI-16-1_L (SOIC, 16-Leads, Body 12.8x7.5mm, Pitch 1.27mm, IPC High Density)
footprint ADI-RI-16-1_M (SOIC, 16-Leads, Body 12.8x7.5mm, Pitch 1.27mm, IPC Low Density)
pins: 1 VDD1 (power) "Supply Voltage for Isolator Side 1.", 2 GND1 (power) "Ground 1. Ground reference for Isolator Side 1.", 3 VIA (in) "Logic Input A.", 4 VIB (in) "Logic Input B.", 5 VIC (in) "Logic Input C.", 6 VID (in) "Logic Input D.", 7 NC "No Connect.", 8 GND1 (power) "Ground 1. Ground reference for Isolator Side 1.", 9 GND2 (power) "Ground 2. Ground reference for Isolator Side 2.", 10 VE2 (in) "Output Enable 2. Active high logic input. VOA, VOB, VOC, and VOD outputs are enabled when VE2 is high or disconnected. VOA, VOB, VOC, and VOD outputs are disabled when VE2 is low. In noisy environments, connecting VE2 to an (See Datasheet)", 11 VOD (hiz) "Logic Output D.", 12 VOC (hiz) "Logic Output C.", 13 VOB (hiz) "Logic Output B.", 14 VOA (hiz) "Logic Output A.", 15 GND2 (power) "Ground 2. Ground reference for Isolator Side 2.", 16 VDD2 (power) "Supply Voltage for Isolator Side 2."

## ADUM4400ARWZ
designator U?
Quad Channel Digital Isolator, 5 KV rms Insulation Rating, 1 Mbps Data Rate, 100 ns Delay, Industrial, 16-pin SOIC (RW-16), Tube; Manufacturer: Analog Devices; PartNumber: ADUM4400ARWZ; Insulation Rating (kVrms): 5; Max Data Rate: 1Mbps; DatasheetVersion: Rev. C; PackageVersion: 032707-B, 03/2007; PackageReference: RW-16; PackageDescription: 16-Pin Standard Small Outline Package, Body 10.3 x 7.5 mm, Pitch 1.27 mm; Supplier 1: Digi-Key; Supplier Part Number 1: ADUM4400ARWZ-ND; Supplier 2: Farnell; Supplier Part Number 2: 2377161; Supplier 3: Mouser; Supplier Part Number 3: 584-ADUM4400ARWZ; Max Operating Temp (degreesC): 105; Mounting Technology: Surface Mount; Code_JEDEC: MS-013-AA; ComponentLink1Description: Manufacturer URL; ComponentLink1URL: http://www.analog.com/en/index.html; ComponentLink2Description: Datasheet; ComponentLink2URL: http://www.analog.com/static/imported-files/data_sheets/ADuM4400_4401_4402.pdf; ComponentLink3Description: Package Specification; ComponentLink3URL: http://www.analog.com/static/imported-files/packages/PKG_PDF/SOIC_WIDE%20%28RW%29/RW_16.pdf; ComponentLink4Description: URL Link1; ComponentLink4URL: Product URL:http://www.analog.com/en/interface-isolation/digital-isolators/adum4400/products/product.html
footprint ADI-RW-16_N (SOIC, 16-Leads, Body 10.3x7.5mm, Pitch 1.27mm, IPC Medium Density)
footprint ADI-RW-16_L (SOIC, 16-Leads, Body 10.3x7.5mm, Pitch 1.27mm, IPC High Density)
footprint ADI-RW-16_M (SOIC, 16-Leads, Body 10.3x7.5mm, Pitch 1.27mm, IPC Low Density)
pins: 1 VDD1 (power) "Supply Voltage for Isolator Side 1.", 2 GND1 (power) "Ground 1. Ground reference for Isolator Side 1.", 3 VIA (in) "Logic Input A.", 4 VIB (in) "Logic Input B.", 5 VIC (in) "Logic Input C.", 6 VID (in) "Logic Input D.", 7 NC "No Connect.", 8 GND1 (power) "Ground 1. Ground reference for Isolator Side 1.", 9 GND2 (power) "Ground 2. Ground reference for Isolator Side 2.", 10 VE2 (in) "Output Enable 2. Active high logic input. VOA, VOB, VOC, and VOD outputs are enabled when VE2 is high or disconnected. VOA, VOB, VOC, and VOD outputs are disabled when VE2 is low. In noisy environments, connecting VE2 to an (See Datasheet)", 11 VOD (hiz) "Logic Output D.", 12 VOC (hiz) "Logic Output C.", 13 VOB (hiz) "Logic Output B.", 14 VOA (hiz) "Logic Output A.", 15 GND2 (power) "Ground 2. Ground reference for Isolator Side 2.", 16 VDD2 (power) "Supply Voltage for Isolator Side 2."

## ADUM4400ARWZ-RL
designator U?
Quad Channel Digital Isolator, 5 KV rms Insulation Rating, 1 Mbps Data Rate, 100 ns Delay, Industrial, 16-pin SOIC (RW-16), Reel; Manufacturer: Analog Devices; PartNumber: ADUM4400ARWZ-RL; Insulation Rating (kVrms): 5; Max Data Rate: 1Mbps; DatasheetVersion: Rev. C; PackageVersion: 032707-B, 03/2007; PackageReference: RW-16; PackageDescription: 16-Pin Standard Small Outline Package, Body 10.3 x 7.5 mm, Pitch 1.27 mm; Supplier 1: Digi-Key; Supplier Part Number 1: ADUM4400ARWZ-RL-ND; Supplier 2: Mouser; Supplier Part Number 2: 584-ADUM4400ARWZ-R; Max Operating Temp (degreesC): 105; Mounting Technology: Surface Mount; Code_JEDEC: MS-013-AA; ComponentLink1Description: Manufacturer URL; ComponentLink1URL: http://www.analog.com/en/index.html; ComponentLink2Description: Datasheet; ComponentLink2URL: http://www.analog.com/static/imported-files/data_sheets/ADuM4400_4401_4402.pdf; ComponentLink3Description: Package Specification; ComponentLink3URL: http://www.analog.com/static/imported-files/packages/PKG_PDF/SOIC_WIDE%20%28RW%29/RW_16.pdf; ComponentLink4Description: URL Link1; ComponentLink4URL: Product URL:http://www.analog.com/en/interface-isolation/digital-isolators/adum4400/products/product.html
footprint ADI-RW-16_N (SOIC, 16-Leads, Body 10.3x7.5mm, Pitch 1.27mm, IPC Medium Density)
footprint ADI-RW-16_L (SOIC, 16-Leads, Body 10.3x7.5mm, Pitch 1.27mm, IPC High Density)
footprint ADI-RW-16_M (SOIC, 16-Leads, Body 10.3x7.5mm, Pitch 1.27mm, IPC Low Density)
pins: 1 VDD1 (power) "Supply Voltage for Isolator Side 1.", 2 GND1 (power) "Ground 1. Ground reference for Isolator Side 1.", 3 VIA (in) "Logic Input A.", 4 VIB (in) "Logic Input B.", 5 VIC (in) "Logic Input C.", 6 VID (in) "Logic Input D.", 7 NC "No Connect.", 8 GND1 (power) "Ground 1. Ground reference for Isolator Side 1.", 9 GND2 (power) "Ground 2. Ground reference for Isolator Side 2.", 10 VE2 (in) "Output Enable 2. Active high logic input. VOA, VOB, VOC, and VOD outputs are enabled when VE2 is high or disconnected. VOA, VOB, VOC, and VOD outputs are disabled when VE2 is low. In noisy environments, connecting VE2 to an (See Datasheet)", 11 VOD (hiz) "Logic Output D.", 12 VOC (hiz) "Logic Output C.", 13 VOB (hiz) "Logic Output B.", 14 VOA (hiz) "Logic Output A.", 15 GND2 (power) "Ground 2. Ground reference for Isolator Side 2.", 16 VDD2 (power) "Supply Voltage for Isolator Side 2."

## ADUM4400BRIZ
designator U?
Quad Channel Digital Isolator, 5 KV rms Insulation Rating, 10 Mbps Data Rate, 50 ns Delay, Industrial, 16-pin SOIC (RI-16-1), Tube; Manufacturer: Analog Devices; PartNumber: ADUM4400BRIZ; Insulation Rating (kVrms): 5; Max Data Rate: 10Mbps; DatasheetVersion: Rev. C; PackageVersion: 10-12-2010-A, 02/2012; PackageReference: RI-16-1; PackageDescription: 16-Pin Standard Small Outline Package, with Increased Creepage, Body 12.8 x 7.5 mm, Pitch 1.27 mm; Supplier 1: Digi-Key; Supplier Part Number 1: ADUM4400BRIZ-ND; Supplier 2: Mouser; Supplier Part Number 2: 584-ADUM4400BRIZ; Max Operating Temp (degreesC): 105; Mounting Technology: Surface Mount; Code_JEDEC: MS-013-AC; ComponentLink1Description: Manufacturer URL; ComponentLink1URL: http://www.analog.com/en/index.html; ComponentLink2Description: Datasheet; ComponentLink2URL: http://www.analog.com/static/imported-files/data_sheets/ADuM4400_4401_4402.pdf; ComponentLink3Description: Package Specification; ComponentLink3URL: http://www.analog.com/static/imported-files/data_sheets/ADuM2400_2401_2402.pdf; ComponentLink4Description: URL Link1; ComponentLink4URL: Product URL:http://www.analog.com/en/interface-isolation/digital-isolators/adum4400/products/product.html
footprint ADI-RI-16-1_N (SOIC, 16-Leads, Body 12.8x7.5mm, Pitch 1.27mm, IPC Medium Density)
footprint ADI-RI-16-1_L (SOIC, 16-Leads, Body 12.8x7.5mm, Pitch 1.27mm, IPC High Density)
footprint ADI-RI-16-1_M (SOIC, 16-Leads, Body 12.8x7.5mm, Pitch 1.27mm, IPC Low Density)
pins: 1 VDD1 (power) "Supply Voltage for Isolator Side 1.", 2 GND1 (power) "Ground 1. Ground reference for Isolator Side 1.", 3 VIA (in) "Logic Input A.", 4 VIB (in) "Logic Input B.", 5 VIC (in) "Logic Input C.", 6 VID (in) "Logic Input D.", 7 NC "No Connect.", 8 GND1 (power) "Ground 1. Ground reference for Isolator Side 1.", 9 GND2 (power) "Ground 2. Ground reference for Isolator Side 2.", 10 VE2 (in) "Output Enable 2. Active high logic input. VOA, VOB, VOC, and VOD outputs are enabled when VE2 is high or disconnected. VOA, VOB, VOC, and VOD outputs are disabled when VE2 is low. In noisy environments, connecting VE2 to an (See Datasheet)", 11 VOD (hiz) "Logic Output D.", 12 VOC (hiz) "Logic Output C.", 13 VOB (hiz) "Logic Output B.", 14 VOA (hiz) "Logic Output A.", 15 GND2 (power) "Ground 2. Ground reference for Isolator Side 2.", 16 VDD2 (power) "Supply Voltage for Isolator Side 2."